# Altium footprint library DCDC_Switching_Regulator_Pcb.PcbLib: 7 footprints
Each footprint in its own frame and in the unit in brackets; x right, y up, seen from the top. Pads: shape width x height; smd on the part's side, far side on the other; paste and mask are expansions set on the pad; w line width, h text height; cw(c..) or ccw(c..) is an arc to the next point about the centre after c.
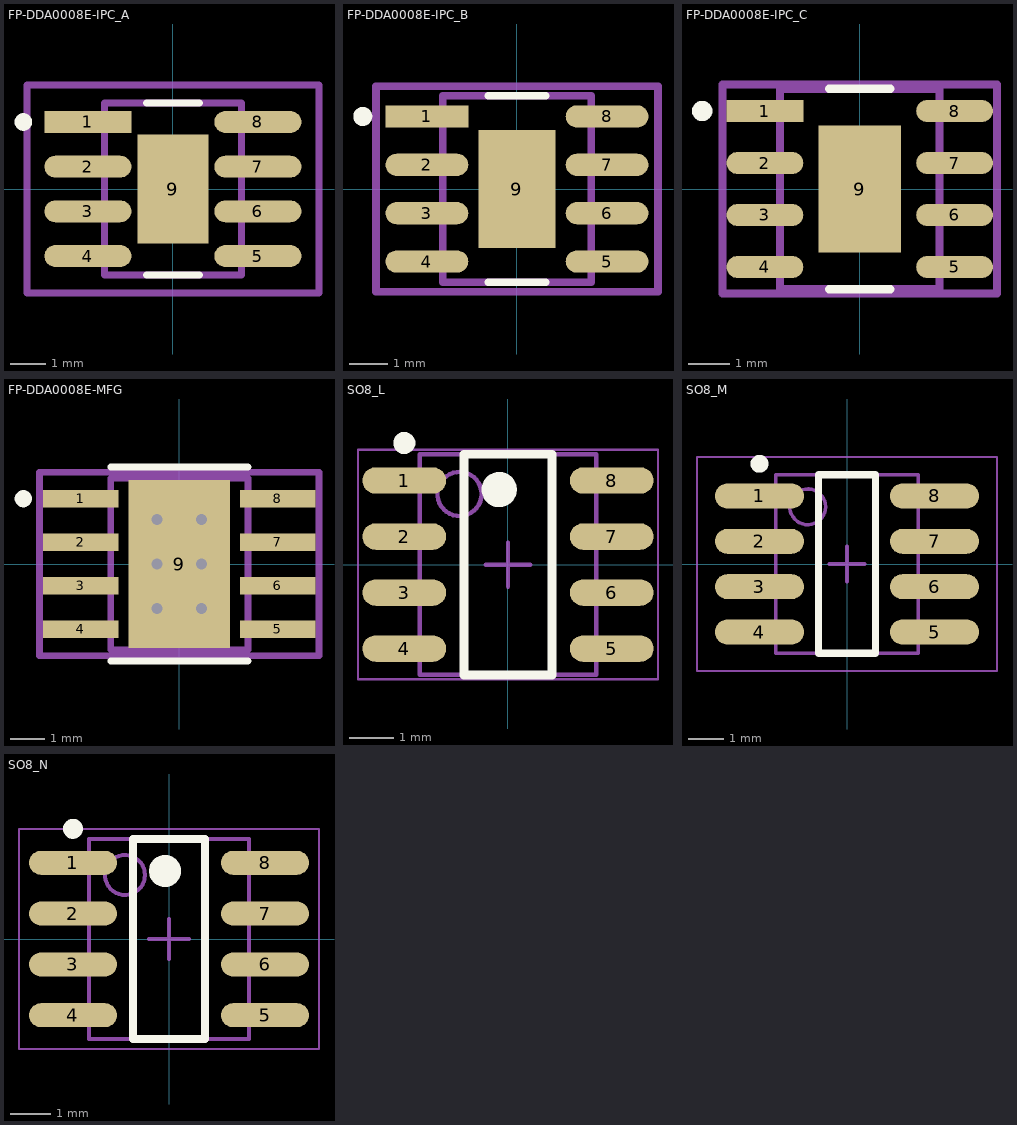
[diagram p0: the footprints below, top view; thin cyan lines are the x and y axes]

## FP-DDA0008E-IPC_A [mm]
pads (9):
  rect 2.474x0.622 smd paste+0 mask+0: 1(-2.416,1.905)
  rrect100% 2.474x0.622 smd paste+0 mask+0: 2(-2.416,0.635) 3(-2.416,-0.635) 4(-2.416,-1.905) 5(2.416,-1.905) 6(2.416,-0.635) 7(2.416,0.635) 8(2.416,1.905)
  rect 2.025x3.1 smd paste-1000 mask+0: 9(0,0)
Top Overlay:
  circle w0.25: c-4.25,1.905 r0.125
  lines w0.2: -0.75,-2.45 0.75,-2.45 ; -0.75,2.45 0.75,2.45
Top Paste:
  rectangle: -0.568,-1.105 0.568,1.105
Mechanical 5:
  lines w0.2: -4.153,-2.95 4.153,-2.95 4.153,2.95 -4.153,2.95 -4.153,-2.95
  text ".Designator" at 0,-0.001 h1
Mechanical 13:
  lines w0.2: -1.95,-2.45 1.95,-2.45 1.95,2.45 -1.95,2.45 -1.95,-2.45
Mechanical 15:
  lines w0.2: -4.153,-2.95 4.153,-2.95 4.153,2.95 -4.153,2.95 -4.153,-2.95
Mechanical 16:
  lines w0.1: -0.5,0 0.5,0 -0.5,0 ; 0,-0.5 0,0.5 0,-0.5
3D body "IC_Texas_Instruments_LM5164DDAR_eec.STEP": height 0.25, standoff 0, extent -4.153,-2.95 4.153,2.95

## FP-DDA0008E-IPC_B [mm]
pads (9):
  rect 2.174x0.582 smd paste+0 mask+0: 1(-2.366,1.905)
  rrect100% 2.174x0.582 smd paste+0 mask+0: 2(-2.366,0.635) 3(-2.366,-0.635) 4(-2.366,-1.905) 5(2.366,-1.905) 6(2.366,-0.635) 7(2.366,0.635) 8(2.366,1.905)
  rect 2.025x3.1 smd paste-1000 mask+0: 9(0,0)
Top Overlay:
  circle w0.25: c-4.05,1.905 r0.125
  lines w0.2: -0.75,-2.45 0.75,-2.45 ; -0.75,2.45 0.75,2.45
Top Paste:
  rectangle: -0.568,-1.105 0.568,1.105
Mechanical 5:
  lines w0.2: -3.703,-2.7 -3.703,2.7 3.703,2.7 3.703,-2.7 -3.703,-2.7
  text ".Designator" at 0,-0.001 h1
Mechanical 13:
  lines w0.2: -1.95,-2.45 -1.95,2.45 1.95,2.45 1.95,-2.45 -1.95,-2.45
Mechanical 15:
  lines w0.2: -3.703,-2.7 -3.703,2.7 3.703,2.7 3.703,-2.7 -3.703,-2.7
Mechanical 16:
  lines w0.1: -0.5,0 0.5,0 -0.5,0 ; 0,-0.5 0,0.5 0,-0.5
3D body "IC_Texas_Instruments_LM5164DDAR_eec.STEP": height 0.25, standoff 0, extent -3.703,-2.7 3.703,2.7

## FP-DDA0008E-IPC_C [mm]
pads (9):
  rect 1.874x0.542 smd paste+0 mask+0: 1(-2.316,1.905)
  rrect100% 1.874x0.542 smd paste+0 mask+0: 2(-2.316,0.635) 3(-2.316,-0.635) 4(-2.316,-1.905) 5(2.316,-1.905) 6(2.316,-0.635) 7(2.316,0.635) 8(2.316,1.905)
  rect 2.025x3.1 smd paste-1000 mask+0: 9(0,0)
Top Overlay:
  circle w0.25: c-3.85,1.905 r0.125
  lines w0.2: -0.75,-2.45 0.75,-2.45 ; -0.75,2.45 0.75,2.45
Top Paste:
  rectangle: -0.568,-1.105 0.568,1.105
Mechanical 5:
  lines w0.2: -3.353,-2.55 -3.353,2.55 3.353,2.55 3.353,-2.55 -3.353,-2.55
  text ".Designator" at 0,-0.001 h1
Mechanical 13:
  lines w0.2: -1.95,-2.45 -1.95,2.45 1.95,2.45 1.95,-2.45 -1.95,-2.45
Mechanical 15:
  lines w0.2: -3.353,-2.55 -3.353,2.55 3.353,2.55 3.353,-2.55 -3.353,-2.55
Mechanical 16:
  lines w0.1: -0.5,0 0.5,0 -0.5,0 ; 0,-0.5 0,0.5 0,-0.5
3D body "IC_Texas_Instruments_LM5164DDAR_eec.STEP": height 0.25, standoff 0, extent -3.353,-2.55 3.353,2.55

## FP-DDA0008E-MFG [mm]
pads (9):
  rect 2.2x0.5 smd paste-1000 mask+0: 1(-2.875,1.905) 2(-2.875,0.635) 3(-2.875,-0.635) 4(-2.875,-1.905) 5(2.875,-1.905) 6(2.875,-0.635) 7(2.875,0.635) 8(2.875,1.905)
  rect 2.95x4.9 smd paste-1000 mask-1000: 9(0,0)
via 0.65,-1.3 diameter 0.63 hole 0.33
via 0.65,0 diameter 0.63 hole 0.33
via 0.65,1.3 diameter 0.63 hole 0.33
via -0.65,-1.3 diameter 0.63 hole 0.33
via -0.65,0 diameter 0.63 hole 0.33
via -0.65,1.3 diameter 0.63 hole 0.33
Top Overlay:
  circle w0.25: c-4.55,1.905 r0.125
  lines w0.2: -2,-2.825 2,-2.825 ; -2,2.825 2,2.825
Top Paste:
  rectangle: 1.8,-2.13 3.95,-1.68
  rectangle: 1.8,-0.86 3.95,-0.41
  rectangle: 1.8,0.41 3.95,0.86
  rectangle: 1.8,1.68 3.95,2.13
  rectangle: -3.95,-2.13 -1.8,-1.68
  rectangle: -3.95,-0.86 -1.8,-0.41
  rectangle: -3.95,0.41 -1.8,0.86
  rectangle: -3.95,1.68 -1.8,2.13
  rectangle: -1.2,-1.55 1.2,1.55
Top Solder:
  rectangle: -1.2,-1.55 1.2,1.55
Mechanical 5:
  lines w0.2: -4.075,-2.675 -4.075,2.675 4.075,2.675 4.075,-2.675 -4.075,-2.675
  text ".Designator" at 0,0.188 h1
Mechanical 13:
  lines w0.2: -2,-2.5 -2,2.5 2,2.5 2,-2.5 -2,-2.5
Mechanical 15:
  lines w0.2: -4.075,-2.675 -4.075,2.675 4.075,2.675 4.075,-2.675 -4.075,-2.675
Mechanical 16:
  lines w0.1: -0.5,0 0.5,0 ; 0,-0.5 0,0.5
3D body "IC_Texas_Instruments_TPS54360BQDDARQ1_eec.STEP": height 0.25, standoff 0, extent -4.075,-2.675 4.075,2.675

## SO8_L [mm] "SOIC, 8-Leads, Body 4.9x3.9mm, Pitch 1.27mm, IPC High Density"
height 1.75
pads (8):
  oval 1.9x0.6 smd: 1(-2.35,1.905) 2(-2.35,0.635) 3(-2.35,-0.635) 4(-2.35,-1.905) 5(2.35,-1.905) 6(2.35,-0.635) 7(2.35,0.635) 8(2.35,1.905)
Top Overlay:
  circle w0.25: c-2.35,2.755 r0.125
  circle w0.4: c-0.2,1.7 r0.2
  lines w0.2: -1,-2.5 -1,2.5 1,2.5 1,-2.5 -1,-2.5
Mechanical 13:
  circle w0.1: c-1.1,1.6 r0.5
  lines w0.1: -2,-2.5 -2,2.5 2,2.5 2,-2.5 -2,-2.5
Mechanical 15:
  lines w0.05: -3.4,-2.6 -3.4,2.6 3.4,2.6 3.4,-2.6 -3.4,-2.6
  lines w0.1: -0.5,0 0.5,0 ; 0,-0.5 0,0.5
3D body "SO-8N.STEP": height 1.63, standoff 0.01, extent -3,-2.46 3,2.46

## SO8_M [mm] "SOIC, 8-Leads, Body 4.9x3.9mm, Pitch 1.27mm, IPC Low Density"
height 1.75
pads (8):
  oval 2.5x0.7 smd: 1(-2.45,1.905) 2(-2.45,0.635) 3(-2.45,-0.635) 4(-2.45,-1.905) 5(2.45,-1.905) 6(2.45,-0.635) 7(2.45,0.635) 8(2.45,1.905)
Top Overlay:
  circle w0.25: c-2.45,2.805 r0.125
  lines w0.2: -0.8,-2.5 -0.8,2.5 0.8,2.5 0.8,-2.5 -0.8,-2.5
Mechanical 13:
  circle w0.1: c-1.1,1.6 r0.5
  lines w0.1: -2,-2.5 -2,2.5 2,2.5 2,-2.5 -2,-2.5
Mechanical 15:
  lines w0.05: -4.2,-3 -4.2,3 4.2,3 4.2,-3 -4.2,-3
  lines w0.1: -0.5,0 0.5,0 ; 0,-0.5 0,0.5
3D body "SO-8N.STEP": height 1.63, standoff 0.01, extent -3,-2.46 3,2.46

## SO8_N [mm] "SOIC, 8-Leads, Body 4.9x3.9mm, Pitch 1.27mm, IPC Medium Density"
height 1.75
pads (8):
  oval 2.2x0.6 smd: 1(-2.4,1.905) 2(-2.4,0.635) 3(-2.4,-0.635) 4(-2.4,-1.905) 5(2.4,-1.905) 6(2.4,-0.635) 7(2.4,0.635) 8(2.4,1.905)
Top Overlay:
  circle w0.25: c-2.4,2.755 r0.125
  circle w0.4: c-0.1,1.7 r0.2
  lines w0.2: -0.9,-2.5 -0.9,2.5 0.9,2.5 0.9,-2.5 -0.9,-2.5
Mechanical 13:
  circle w0.1: c-1.1,1.6 r0.5
  lines w0.1: -2,-2.5 -2,2.5 2,2.5 2,-2.5 -2,-2.5
Mechanical 15:
  lines w0.05: -3.75,-2.75 -3.75,2.75 3.75,2.75 3.75,-2.75 -3.75,-2.75
  lines w0.1: -0.5,0 0.5,0 ; 0,-0.5 0,0.5
3D body "SO-8N.STEP": height 1.63, standoff 0.01, extent -3,-2.46 3,2.46